# EAGLE library part RF_CONTROL_3X7_CON (library custom_parts)
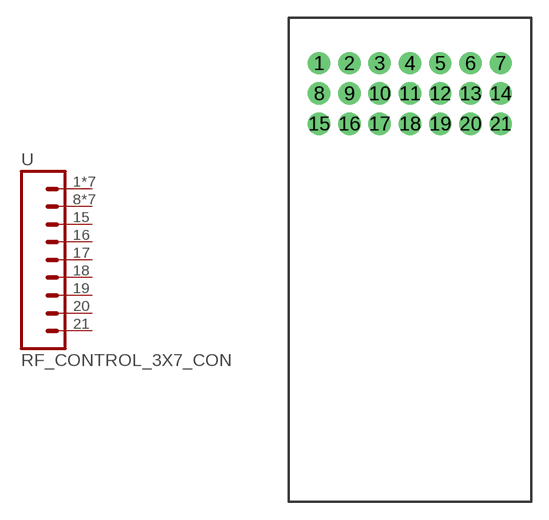
[diagram p1: symbol with the pads of 3X07; footprint 3X07]

Designator prefix -

## RF_CONTROL_3X7_CON  [3X07]
1  GND  pwr
2  GND  pwr
3  GND  pwr
4  GND  pwr
5  GND  pwr
6  GND  pwr
7  GND  pwr
8  5V  pwr
9  5V  pwr
10  5V  pwr
11  5V  pwr
12  5V  pwr
13  5V  pwr
14  5V  pwr
15  1
16  2
17  3
18  4
19  5
20  6
21  7

## Footprint 3X07 (pad centres in mm)
drill 1.016 pad 1.88: 1 0,0; 2 2.54,0; 3 5.08,0; 4 7.62,0; 5 10.16,0; 6 12.7,0; 7 15.24,0; 8 0,-2.54; 9 2.54,-2.54; 10 5.08,-2.54; 11 7.62,-2.54; 12 10.16,-2.54; 13 12.7,-2.54; 14 15.24,-2.54; 15 0,-5.08; 16 2.54,-5.08; 17 5.08,-5.08; 18 7.62,-5.08; 19 10.16,-5.08; 20 12.7,-5.08; 21 15.24,-5.08